# EAGLE library part WBL-4U_S (library switch-e-switch)
4PDT PUSHBUTTON SWITCH
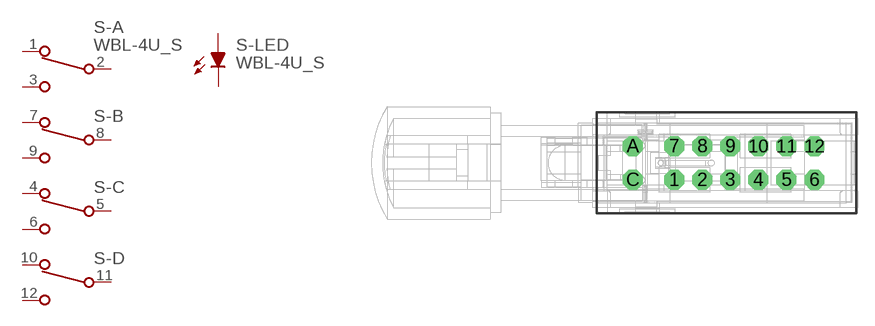
[diagram p5: symbol with the pads of WBL-4U; footprint WBL-4U]

Designator prefix S; gates -A=1PDT-NV -B=1PDT-N -C=1PDT-N -D=1PDT-N -LED=LED

## WBL-4U_S  [WBL-4U]
1  -A:A-NC  pas
2  -A:A-COM  pas
3  -A:A-NO  pas
4  -C:A-NC  pas
5  -C:A-COM  pas
6  -C:A-NO  pas
7  -B:A-NC  pas
8  -B:A-COM  pas
9  -B:A-NO  pas
10  -D:A-NC  pas
11  -D:A-COM  pas
12  -D:A-NO  pas
A  -LED:A  pas
C  -LED:C  pas

## Footprint WBL-4U (pad centres in mm)
PUSH BUTTON SWITCH 4PDT w/LED
drill 0.813 pad 1.778 octagon: 1 -2.5,-1.5; 2 0,-1.5; 3 2.5,-1.5; 4 5,-1.5; 5 7.5,-1.5; 6 10,-1.5; 7 -2.5,1.5; 8 0,1.5; 9 2.5,1.5; 10 5,1.5; 11 7.5,1.5; 12 10,1.5; A -6.2,1.5; C -6.2,-1.5